# EAGLE library part A3941 (library chlk_bot)
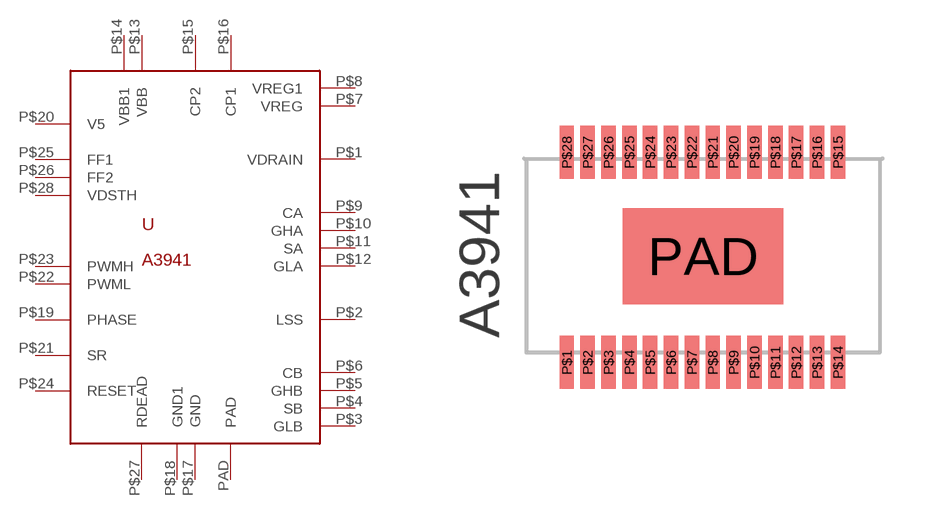
[diagram p7: symbol with the pads of TSSOP28_EXPOSED; footprint TSSOP28_EXPOSED]

Designator prefix -

## A3941  [TSSOP28_EXPOSED]
P$1  VDRAIN
P$2  LSS
P$3  GLB
P$4  SB
P$5  GHB
P$6  CB
P$7  VREG
P$8  VREG1
P$9  CA
P$10  GHA
P$11  SA
P$12  GLA
P$13  VBB
P$14  VBB1
P$15  CP2
P$16  CP1
P$17  GND
P$18  GND1
P$19  PHASE
P$20  V5
P$21  SR
P$22  PWML
P$23  PWMH
P$24  RESET
P$25  FF1
P$26  FF2
P$27  RDEAD
P$28  VDSTH
PAD  PAD

## Footprint TSSOP28_EXPOSED (pad centres in mm)
smd 0.45 x 1.65: P$1 -4.25,-3.3; P$2 -3.6,-3.3; P$3 -2.95,-3.3; P$4 -2.3,-3.3; P$5 -1.65,-3.3; P$6 -1,-3.3; P$7 -0.35,-3.3; P$8 0.3,-3.3; P$9 0.95,-3.3; P$10 1.6,-3.3; P$11 2.25,-3.3; P$12 2.9,-3.3; P$13 3.55,-3.3; P$14 4.2,-3.3; P$15 4.2,3.25; P$16 3.55,3.25; P$17 2.9,3.25; P$18 2.25,3.25; P$19 1.6,3.25; P$20 0.95,3.25; P$21 0.3,3.25; P$22 -0.35,3.25; P$23 -1,3.25; P$24 -1.65,3.25; P$25 -2.3,3.25; P$26 -2.95,3.25; P$27 -3.6,3.25; P$28 -4.25,3.25
smd 5 x 3: PAD 0,0